# EAGLE library part SW_EG2207 (library sc_usercreated)
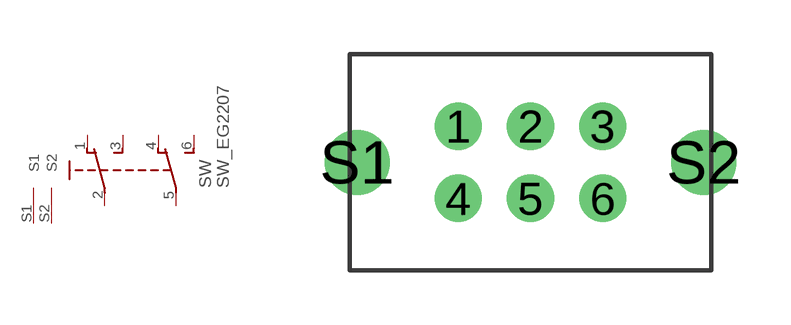
[diagram p19: symbol with the pads of SW_EG2207; footprint SW_EG2207]

Designator prefix SW

## SW_EG2207  [SW_EG2207]
1  1  pas
2  2  pas
3  3  pas
4  4  pas
5  5  pas
6  6  pas
S1  S1
S2  S2

## Footprint SW_EG2207 (pad centres in mm)
drill 0.8 round: 1 -2,1; 2 0,1; 3 2,1; 4 -2,-1; 5 0,-1; 6 2,-1
drill 1.2 round: S1 -4.8,0; S2 4.8,0